# Altium schematic symbol library Micro Switch.SchLib: 6 symbols
Pins are listed as number, name and electrical type; pins without a type are passive.

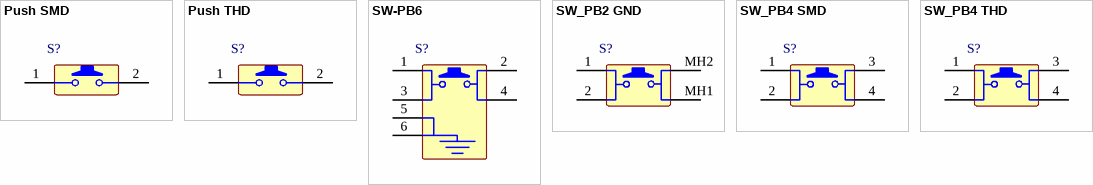
[diagram p0: symbols Push SMD to SW_PB4 THD]

## Push SMD
designator S?
Push SMD; DatasheetVersion: 2022
footprint SMD_ALPS_SKQMBBE010
footprint SWPBS_SPST_3X2X1 (3X2.5mm)
footprint SWPBS_SPST_6X3X2
footprint SWPBS_SPST_6X3X5
footprint SWPBS_SPST_6X3X5_R
pins: 1 Button, 2

## Push THD
designator S?
Push THD; DatasheetVersion: 2022
footprint SW THD 2 PIN (1)
footprint SW THD 2 PIN (2)
footprint SW THD 2 PIN (3)
footprint SW THD 2 PIN (5)
footprint SW THD 2 PIN (6) 6X3X5
footprint SW THD 2 PIN (7) 6X6X4
footprint SW THD 2 PIN (8) 6X6X4C
footprint SW THD 2 PIN (9) 6X6X5
footprint SW THD 2 PIN (10) 6X6X10
footprint SW THD 2 PIN (11) 8X8
footprint SW THD 2 PIN (12) 9X9X13
footprint SW THD 2 PIN (13) 12X12
footprint SW THD 2 PIN (14) 12X12
footprint SW THD 2 PIN (15)
pins: 1 Button, 2

## SW-PB6
designator S?
SW-PB6; DatasheetVersion: 2022
footprint SMD_ALPS_SKSGPAE010
footprint SMD_ALPS_SKSGPAE010
pins: 1, 2, 3, 4, 5, 6

## SW_PB2 GND
designator S?
SW_PB2 GND; DatasheetVersion: 2022
footprint SW THD 4 GND PIN (1) 6X6X6
footprint SW THD 4 GND PIN (2) 6X3
footprint SW THD 4 GND PIN (3) 6X6
footprint SW THD 4 GND PIN (4) 6X6X4
footprint SW THD 4 GND PIN (5) 6X6X10
footprint SW THD 4 GND PIN (6)
footprint SW THD 4 GND PIN (7)
pins: 1, 2, MH1, MH2

## SW_PB4 SMD
designator S?
SW_PB4 SMD; DatasheetVersion: 2022
footprint 461011220101
footprint SMD_ALPS_SKQGAFE010
footprint SMD_ALPS_SKRBAGE010
footprint SMD_ALPS_SKRMAAE010
footprint SMD_ALPS_SKRWAEE030
footprint SMD_ALPS_SKSHAAE010
footprint SMD_PB
footprint SW-PB
footprint SWPBS_SPDT_3X3
footprint SWPBS_SPDT_3X3X1
footprint SWPBS_SPDT_4X4SKRM
footprint SWPBS_SPDT_4X4SKRW
footprint SWPBS_SPDT_5X5X1
footprint SWPBS_SPDT_5X5_SKRB
footprint SWPBS_SPDT_6X6X4 (6.5*6.5mm, 4.3mm,)
footprint SWPBS_SPDT_6X6X5 (6X6mm)
footprint SWPBS_SPDT_6X6X5TS (6.5*6.5mm, 5.0mm,)
footprint SWPBS_SPDT_6X6X7 (6.2*6.2*7.3mm)
footprint SWPBS_SPDT_6X6X7TS (7.0mm)
footprint SWPBS_SPDT_R_KMS
footprint SWPBS_SPDT_R_WE
pins: 1, 2, 3, 4

## SW_PB4 THD
designator S?
SW_PB4 THD; DatasheetVersion: 2022
footprint SW THD 4 PIN (3)
footprint SW THD 4 PIN (4)
footprint SW THD 4 PIN (5)
footprint SW THD 4 PIN (6)
footprint SW THD 4 PIN (7)
footprint SW THD 4 PIN (8)
footprint SW THD 4 PIN (9)
footprint SW THD 4 PIN (10)
footprint SW THD 4 PIN (11) 6X6X4
footprint SW THD 4 PIN (12) 6X6X4SKHH
footprint SW THD 4 PIN (13) 6X6X5
footprint SW THD 4 PIN (14) 6X6X5SKHH
footprint SW THD 4 PIN (15) 6X6X5TS
footprint SW THD 4 PIN (16) 6X6X7
footprint SW THD 4 PIN (17) 6X6X7J
footprint SW THD 4 PIN (18) 6X6X7TS
footprint SW THD 4 PIN (19) 6X6X10
footprint SW THD 4 PIN (20) 6X6X10SKHH
footprint SW THD 4 PIN (21) 6X6X13SKHH
footprint SW THD 4 PIN (22) 6X6X17SKHH
footprint SW THD 4 PIN (23) 7X7X5
footprint SW THD 4 PIN (24) 10X10X7
footprint SW THD 4 PIN (25) 12X12SKHC
footprint SW THD 4 PIN (26) 12X12SKQE
footprint SW THD 4 PIN (27)
pins: 1, 2, 3, 4